# EAGLE library part DSPIC33EPXXXMC202/502 (library PIC_30F_2020)
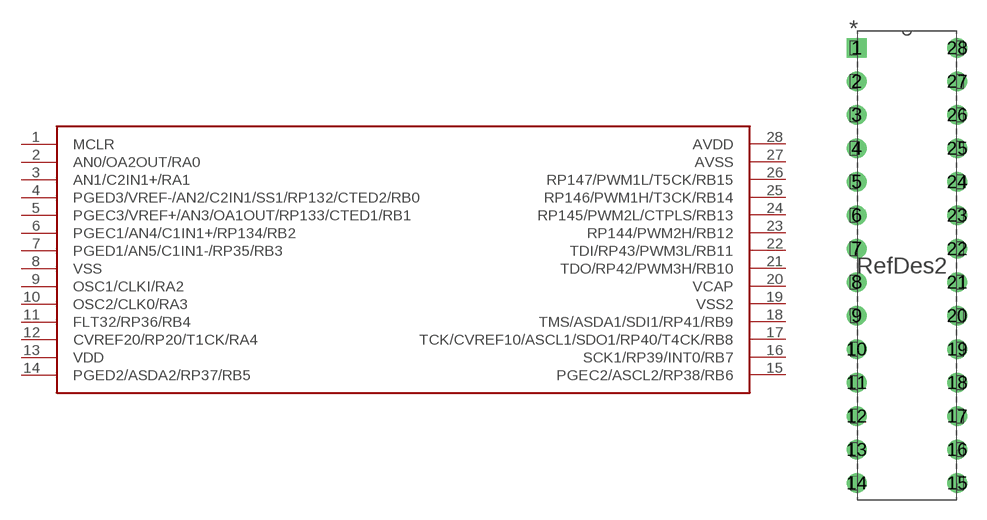
[diagram p1: symbol with the pads of SPDIP28_300MC; footprint SPDIP28_300MC]

Designator prefix -

## DSPIC33EPXXXMC202/502  [SPDIP28_300MC]
1  MCLR
2  AN0/OA2OUT/RA0
3  AN1/C2IN1+/RA1
4  PGED3/VREF-/AN2/C2IN1/SS1/RP132/CTED2/RB0
5  PGEC3/VREF+/AN3/OA1OUT/RP133/CTED1/RB1
6  PGEC1/AN4/C1IN1+/RP134/RB2
7  PGED1/AN5/C1IN1-/RP35/RB3
8  VSS  pwr
9  OSC1/CLKI/RA2
10  OSC2/CLK0/RA3
11  FLT32/RP36/RB4
12  CVREF20/RP20/T1CK/RA4
13  VDD  pwr
14  PGED2/ASDA2/RP37/RB5
15  PGEC2/ASCL2/RP38/RB6
16  SCK1/RP39/INT0/RB7
17  TCK/CVREF10/ASCL1/SDO1/RP40/T4CK/RB8
18  TMS/ASDA1/SDI1/RP41/RB9
19  VSS2  pwr
20  VCAP  pwr
21  TDO/RP42/PWM3H/RB10
22  TDI/RP43/PWM3L/RB11
23  RP144/PWM2H/RB12
24  RP145/PWM2L/CTPLS/RB13
25  RP146/PWM1H/T3CK/RB14
26  RP147/PWM1L/T5CK/RB15
27  AVSS  pwr
28  AVDD  pwr

## Footprint SPDIP28_300MC (pad centres in mm)
drill 0.991 square: 1 -7.62,33.02
drill 0.991: 2 -7.62,30.48; 3 -7.62,27.94; 4 -7.62,25.4; 5 -7.62,22.86; 6 -7.62,20.32; 7 -7.62,17.78; 8 -7.62,15.24; 9 -7.62,12.7; 10 -7.62,10.16; 11 -7.62,7.62; 12 -7.62,5.08; 13 -7.62,2.54; 14 -7.62,0; 15 0,0; 16 0,2.54; 17 0,5.08; 18 0,7.62; 19 0,10.16; 20 0,12.7; 21 0,15.24; 22 0,17.78; 23 0,20.32; 24 0,22.86; 25 0,25.4; 26 0,27.94; 27 0,30.48; 28 0,33.02